# Altium footprint library 6106 RC522门禁卡.PcbLib: 19 footprints (part 1 of 2)
Each footprint in its own frame and in the unit in brackets; x right, y up, seen from the top. Pads: shape width x height; smd on the part's side, far side on the other; paste and mask are expansions set on the pad; w line width, h text height; cw(c..) or ccw(c..) is an arc to the next point about the centre after c.
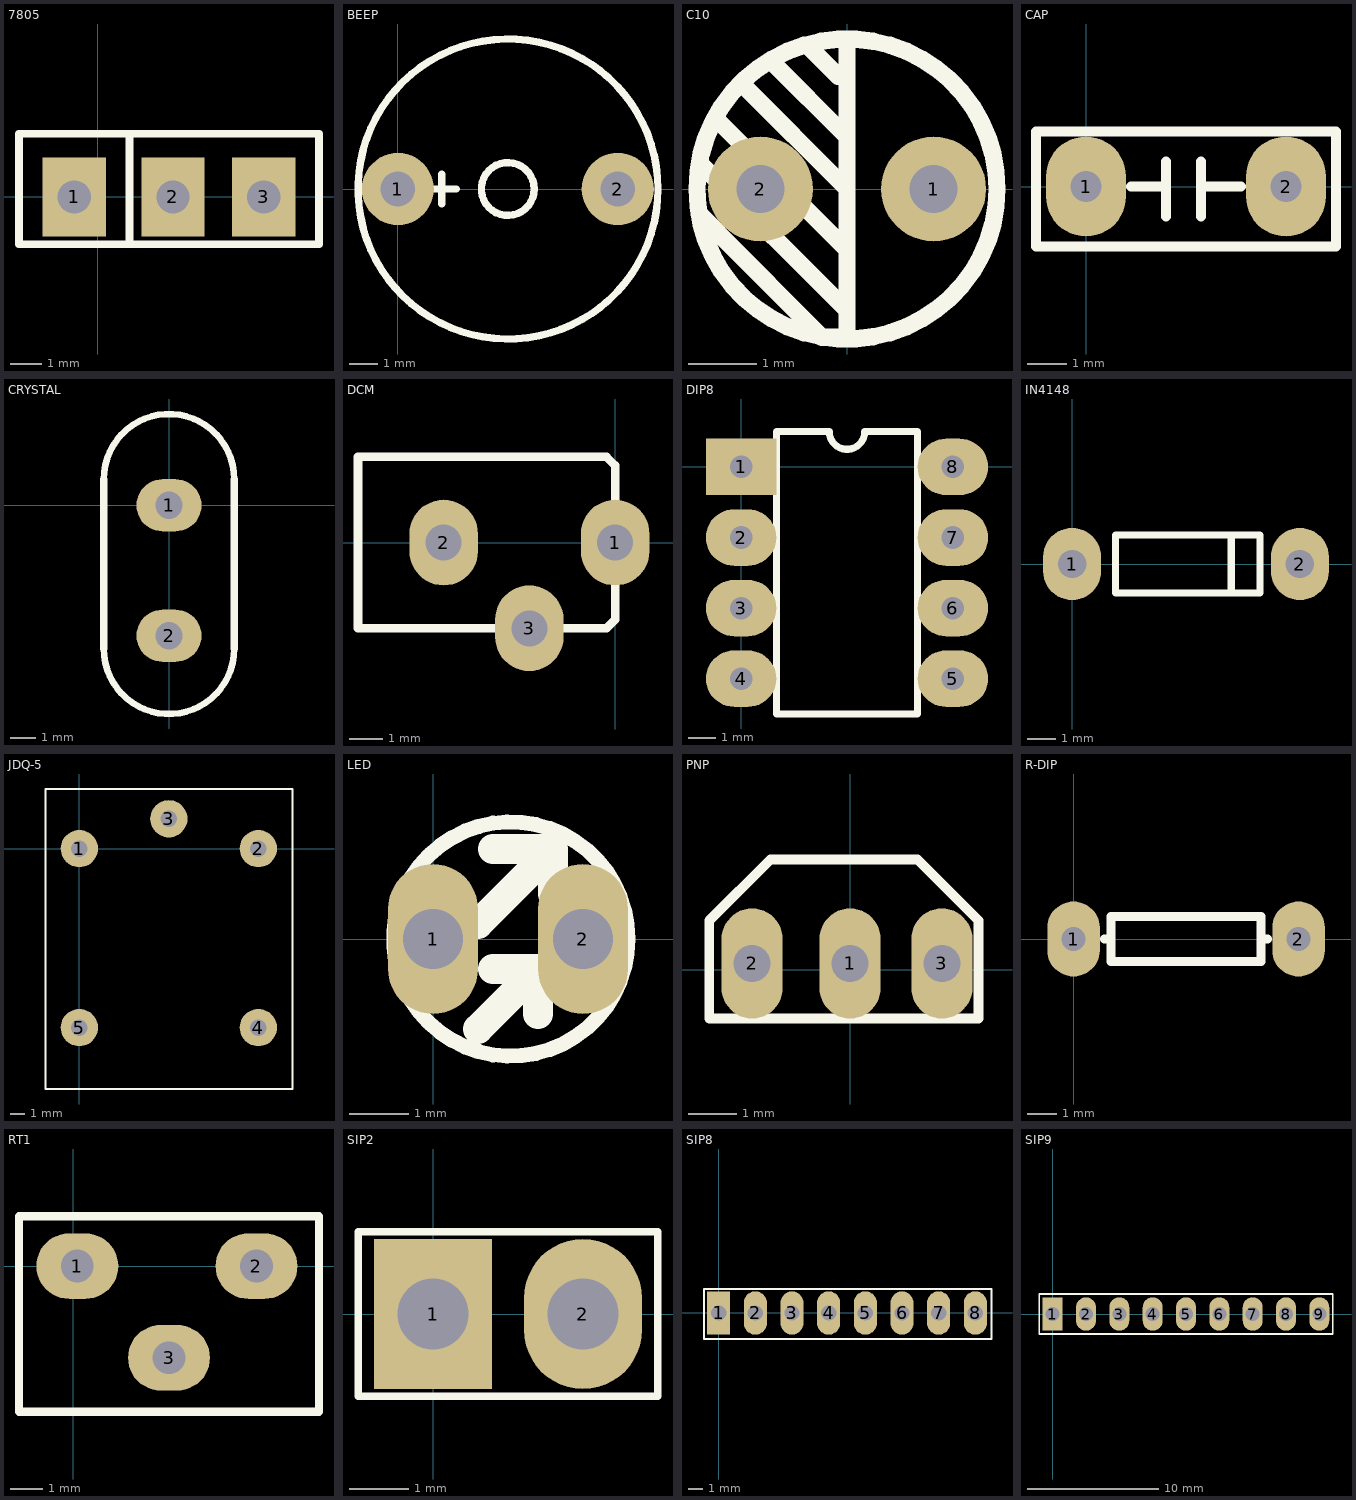
[diagram p0: the footprints below, top view; thin cyan lines are the x and y axes]

## 7805 [mil]
pads (3):
  rect 80x100 hole 42: 1(-30,0) 2(95,0) 3(210,0)
Top Overlay:
  lines w10: 40,-60 40,80 ; -100,-60 280,-60 280,80 -100,80 -100,60 -100,-60

## BEEP [mm]
pads (2):
  round 2.5 hole 1.2: 1(0,0) 2(7.62,0)
Top Overlay:
  circle w0.254: c3.81,0 r0.916
  circle w0.254: c3.817,0 r5.2
  lines w0.254: 1.016,0 2.032,0 ; 1.524,-0.508 1.524,0.508

## C10 [mm]
pads (2):
  round 1.54 hole 0.7: 1(1.27,0) 2(-1.27,0)
Top Overlay:
  circle w0.254: c0,0 r2.2
  lines w0.254: -2.166,-0.363 -1.894,-0.635 -1.905,-0.635 -0.366,-2.174 0,-2.174 0,2.195 ; -2.129,0.351 0,-1.778 ; -1.923,1.034 0,-0.889 ; -1.552,1.552 0,0 ; -1.121,1.883 0,0.762 ; -0.564,2.088 -0.127,1.651

## CAP [mil]
pads (2):
  oval 80x100 hole 31.5: 1(0,0) 2(200,0)
Top Overlay:
  lines w10: 45,0 75,0 ; 80,-30 80,25 ; 115,-30 115,25 ; 120,0 155,0 ; -50,-60 250,-60 250,55 -50,55 -50,-60

## CRYSTAL [mil]
pads (2):
  oval 100x80 hole 42: 1(0,0) 2(0,-200)
Top Overlay:
  lines w10: -100,-220 ccw(c0,-220) 100,-220 ; -100,40 cw(c0,40) 100,40
  lines w12: -100,-220 -100,40 ; 100,-220 100,40

## DCM [mil]
pads (3):
  oval 80x100 hole 42: 1(0,0) 2(-200,0) 3(-100,-100)
Top Overlay:
  lines w10: -300,-100 -10,-100 0,-90 0,90 -10,100 -300,100 -300,-100

## DIP8 [mil]
pads (8):
  rect 100x80 hole 32: 1(0,0)
  oval 100x80 hole 32: 2(0,-100) 3(0,-200) 4(0,-300) 5(300,-300) 6(300,-200) 7(300,-100) 8(300,0)
Top Overlay:
  lines w10: 50,-350 250,-350 250,50 175,50 cw(c150,50) 125,50 50,50 50,-350

## IN4148 [mm]
pads (2):
  oval 2.032x2.54 hole 1: 1(0,0) 2(8,0)
Top Overlay:
  lines w0.254: 5.588,-1.016 5.588,1.016 ; 1.524,-1.016 1.524,1.016 6.604,1.016 6.604,-1.016 1.524,-1.016

## JDQ-5 [mm]
pads (5):
  round 2.5 hole 1.1: 1(0,0) 2(12,0) 3(6,2) 4(12,-12) 5(0,-12)
Top Overlay:
  lines w0.127: -2.264,-16.118 14.283,-16.118 14.283,3.995 -2.264,3.995 -2.264,-16.118
Bottom Overlay:
  lines w0.127: 0.008,-0.976 0.008,-4.23 7.181,-4.23 ; 1.084,-12.003 5.221,-12.004 ; 5.941,-11.042 5.941,-10.818 ; 5.941,1.196 5.941,-10.094 5.941,-10.818 ; 7.018,-12.036 11.247,-12.036 ; 7.786,-12.898 5.941,-11.052 5.941,-10.818 ; 9.257,-4.188 11.911,-4.188 11.911,-0.85 ; 7.238,-5.985 9.294,-5.985 9.294,-2.282 7.238,-2.282 7.238,-5.985

## LED [mil]
pads (2):
  oval 60x100 hole 40: 1(0,0) 2(100,0)
Top Overlay:
  circle w10: c51.9,0 r78.1
  lines w20: 30,-60 70,-20 ; 30,10 80,60 ; 40,-20 70,-20 ; 40,60 80,60 ; 70,-50 70,-20 ; 80,30 80,60

## PNP [mil]
pads (3):
  oval 50x90 hole 30: 1(0,5) 2(-80,5) 3(75,5)
Top Overlay:
  lines w8: -115,-40 105,-40 105,40 55,90 -65,90 -115,40 -115,-40

## R-DIP [mil]
pads (2):
  oval 70x100 hole 32: 1(0,0) 2(300,0)
Top Overlay:
  lines w12: 41,0 50,0 ; 259,0 250,0 ; 250,0 250,30 50,30 50,-30 250,-30 250,0

## RT1 [mm]
pads (3):
  oval 2.5x2 hole 1: 1(0.127,0) 2(5.588,0) 3(2.921,-2.794)
Top Overlay:
  lines w0.254: -1.651,-4.445 7.493,-4.445 7.493,1.524 -1.651,1.524 -1.651,-4.445

## SIP2 [mm]
pads (2):
  rect 2x2.54 hole 1.2: 1(0,0)
  oval 2x2.54 hole 1.2: 2(2.54,0)
Top Overlay:
  lines w0.127: -1.27,-1.397 -1.27,1.397 3.81,1.397 3.81,-1.397 -1.27,-1.397

## SIP8 [mm]
pads (8):
  rect 1.6x3 hole 1.067: 1(0,0)
  oval 1.6x3 hole 1.067: 2(2.54,0) 3(5.08,0) 4(7.62,0) 5(10.16,0) 6(12.7,0) 7(15.24,0) 8(17.78,0)
Top Overlay:
  lines w0.127: -1.016,-1.804 18.907,-1.804 18.907,1.663 -1.016,1.663 -1.016,-1.804

## SIP9 [mil]
pads (9):
  rect 60x100 hole 42: 1(0,0)
  oval 60x100 hole 42: 2(100,0) 3(200,0) 4(300,0) 5(400,0) 6(500,0) 7(600,0) 8(700,0) 9(800,0)
Top Overlay:
  lines w5: -40,-60 840,-60 840,60 -40,60 -40,-60